# EAGLE library part LM6800 (library LM6800)
Topway LM6800 LCD (256x64)
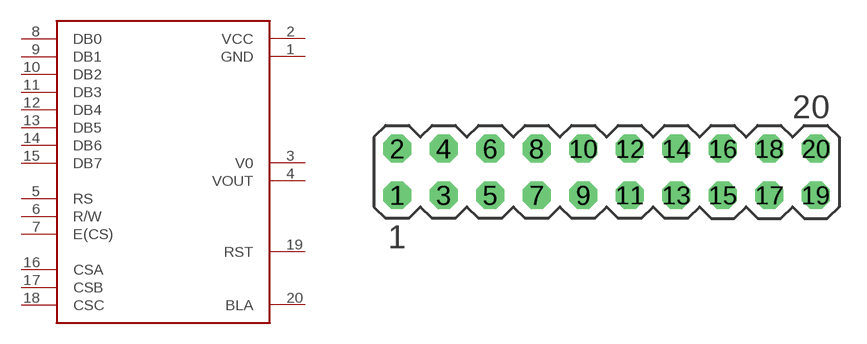
[diagram p0: symbol with the pads of MA10-2; footprint MA10-2]

Designator prefix SV

## LM6800  [MA10-2]
1  GND
2  VCC
3  V0
4  VOUT
5  RS
6  R/W
7  E(CS)
8  DB0
9  DB1
10  DB2
11  DB3
12  DB4
13  DB5
14  DB6
15  DB7
16  CSA
17  CSB
18  CSC
19  RST
20  BLA

## Footprint MA10-2 (pad centres in mm)
PIN HEADER
drill 1.016 octagon: 1 -11.43,-1.27; 2 -11.43,1.27; 3 -8.89,-1.27; 4 -8.89,1.27; 5 -6.35,-1.27; 6 -6.35,1.27; 7 -3.81,-1.27; 8 -3.81,1.27; 9 -1.27,-1.27; 10 -1.27,1.27; 11 1.27,-1.27; 12 1.27,1.27; 13 3.81,-1.27; 14 3.81,1.27; 15 6.35,-1.27; 16 6.35,1.27; 17 8.89,-1.27; 18 8.89,1.27; 19 11.43,-1.27; 20 11.43,1.27